# Altium schematic symbol library VFD.SchLib: 3 symbols
Pins are listed as number, name and electrical type; pins without a type are passive.

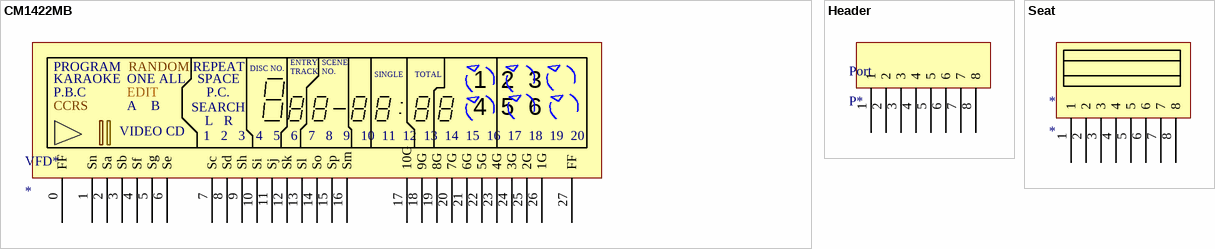
[diagram p0: symbols CM1422MB to Seat]

## CM1422MB
designator VFD*
footprint VFD2.5
pins: 0 FF, 1 Sn, 2 Sa, 3 Sb, 4 Sf, 5 Sg, 6 Se, 7 Sc, 8 Sd, 9 Sh, 10 Si, 11 Sj, 12 Sk, 13 Sl, 14 So, 15 Sp, 16 Sm, 17 10G, 18 9G, 19 8G, 20 7G, 21 6G, 22 5G, 23 4G, 24 3G, 25 2G, 26 1G, 27 FF
text: ENTRY; SCENE; PROGRAM; RANDOM; REPEAT; DISC NO.; TRACK; NO.; SINGLE; TOTAL; KARAOKE; ONE ALL; SPACE; 1  2  3; P.B.C; EDIT; P.C.; CCRS; A    B; SEARCH; 4  5  6; L   R; VIDEO CD; 1   2   3   4   5   6   7   8   9   10  11  12  13  14  15  16  17  18  19  20

## Header
designator Port, comment P*
footprint FP8
pins: 1, 2, 3, 4, 5, 6, 7, 8

## Seat
designator *
footprint SEAT8
pins: 1, 2, 3, 4, 5, 6, 7, 8